# Altium footprint library T70052K.PcbLib: 1 footprints
Each footprint in its own frame and in the unit in brackets; x right, y up, seen from the top. Pads: shape width x height; smd on the part's side, far side on the other; paste and mask are expansions set on the pad; w line width, h text height; cw(c..) or ccw(c..) is an arc to the next point about the centre after c.
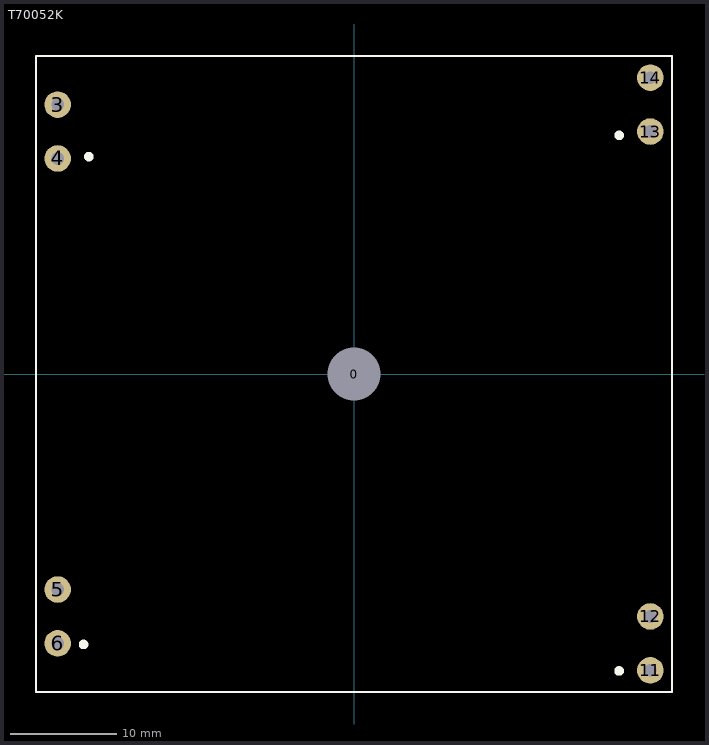
[diagram p0: the footprint, top view; thin cyan lines are the x and y axes]

## T70052K [mm] "Toroidal PC Transformers"
height 26
pads (9):
  round 1.524 hole 5 unplated: 0(0,0)
  round 2.5 hole 1.2: 3(-27.94,25.4) 4(-27.94,20.32) 5(-27.94,-20.32) 6(-27.94,-25.4) 11(27.94,-27.94) 12(27.94,-22.86) 13(27.94,22.86) 14(27.94,27.94)
Top Overlay:
  circle w0.5: c-25.5,-25.5 r0.2
  circle w0.5: c-25,20.5 r0.2
  circle w0.5: c25,-28 r0.2
  circle w0.5: c25,22.5 r0.2
  lines w0.2: -30,-30 -30,30 30,30 30,-30 -30,-30
Top 3D Body:
  lines w0.2: -30,-30 30,-30 30,30 -30,30 -30,-30
3D body "23580.stp": height 38, standoff -4.05, extent -30,-30 30,30